# Altium footprint library 3.07-冷压插片.PcbLib: 3 footprints
Each footprint in its own frame and in the unit in brackets; x right, y up, seen from the top. Pads: shape width x height; smd on the part's side, far side on the other; paste and mask are expansions set on the pad; w line width, h text height; cw(c..) or ccw(c..) is an arc to the next point about the centre after c.
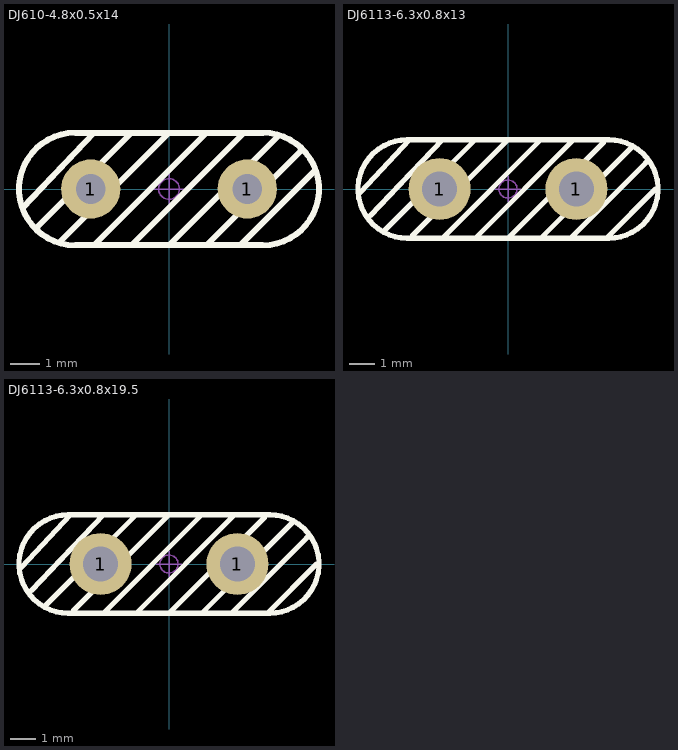
[diagram p0: the footprints below, top view; thin cyan lines are the x and y axes]

## DJ610-4.8x0.5x14 [mm] "宽：4.8mm，厚0.5mm，高：14mm        淘宝ID:黄晶宝石"
pads (2):
  round 2 hole 1: 1(-2.65,0) 1(2.65,0)
Top Overlay:
  lines w0.203: -4.953,-0.635 -2.54,1.905 ; -4.445,-1.27 -1.27,1.905 ; -3.683,-1.778 0,1.905 ; -2.54,-1.905 1.27,1.905 ; -1.27,-1.905 2.54,1.905 ; 0,-1.905 3.683,1.778 ; 1.27,-1.905 4.445,1.27 ; 2.413,-1.905 4.953,0.635 ; -3.175,-1.905 cw(c-3.175,0) -3.175,1.905 3.175,1.905 cw(c3.175,0) 3.175,-1.905 -3.175,-1.905
Mechanical 15:
  circle w0.05: c0,0 r0.35
  lines w0.05: -0.5,0 0.5,0 ; 0,-0.5 0,0.5
3D body "DJ610-4.8x0.5x14.STEP": height 8.55, standoff -3.45, extent -3.125,-0.25 3.125,0.25

## DJ6113-6.3x0.8x13 [mm] "宽：6.3mm，厚0.8mm，高：13mm         淘宝ID:黄晶宝石"
pads (2):
  round 2.4 hole 1.35: 1(-2.65,0) 1(2.65,0)
Top Overlay:
  lines w0.203: -5.715,-0.127 -3.81,1.905 ; -5.324,-1.026 -2.54,1.905 ; -4.763,-1.587 -1.27,1.905 ; -3.683,-1.778 0,1.905 ; -2.54,-1.905 1.27,1.905 ; -1.27,-1.905 2.54,1.905 ; 0,-1.905 3.683,1.778 ; 1.27,-1.905 4.763,1.587 ; 2.413,-1.905 5.334,1.016 ; 3.81,-1.905 5.715,0 ; -3.9,-1.905 cw(c-3.9,0) -3.9,1.905 3.9,1.905 cw(c3.9,0) 3.9,-1.905 -3.9,-1.905
Mechanical 15:
  circle w0.05: c0,0 r0.35
  lines w0.05: -0.5,0 0.5,0 ; 0,-0.5 0,0.5
3D body "DJ6113-6.3x0.8x13.STEP": height 9.55, standoff -3.45, extent -3.9,-0.4 3.9,0.4

## DJ6113-6.3x0.8x19.5 [mm] "宽：6.3mm，厚0.8mm，高：19.5mm          淘宝ID:黄晶宝石"
pads (2):
  round 2.4 hole 1.35: 1(-2.65,0) 1(2.65,0)
Top Overlay:
  lines w0.203: -5.715,-0.127 -3.81,1.905 ; -5.324,-1.026 -2.54,1.905 ; -4.763,-1.587 -1.27,1.905 ; -3.683,-1.778 0,1.905 ; -2.54,-1.905 1.27,1.905 ; -1.27,-1.905 2.54,1.905 ; 0,-1.905 3.683,1.778 ; 1.27,-1.905 4.763,1.587 ; 2.413,-1.905 5.334,1.016 ; 3.81,-1.905 5.715,0 ; -3.9,-1.905 cw(c-3.9,0) -3.9,1.905 3.9,1.905 cw(c3.9,0) 3.9,-1.905 -3.9,-1.905
Mechanical 15:
  circle w0.05: c0,0 r0.35
  lines w0.05: -0.5,0 0.5,0 ; 0,-0.5 0,0.5
3D body "DJ6113-6.3x0.8x19.5.STEP": height 15.05, standoff -4.45, extent -3.9,-0.4 3.9,0.4